# Altium schematic symbol library SCH - DRIVER - LED - TI TPS92638-Q1PWP.SchLib: 1 symbol
Pins are listed as number, name and electrical type; pins without a type are passive.

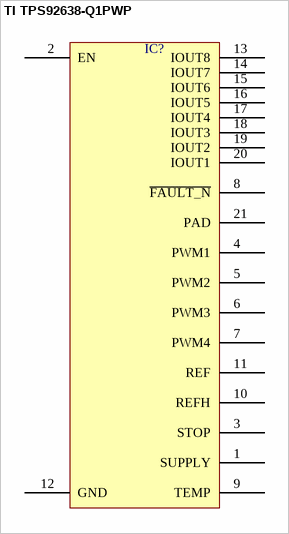
[diagram p0: symbol TI TPS92638-Q1PWP]

## TI TPS92638-Q1PWP
designator IC?  (value not drawn)
pins: 1 SUPPLY, 2 EN, 3 STOP, 4 PWM1, 5 PWM2, 6 PWM3, 7 PWM4, 8 ~{FAULT_N}, 9 TEMP, 10 REFH, 11 REF, 12 GND, 13 IOUT8, 14 IOUT7, 15 IOUT6, 16 IOUT5, 17 IOUT4, 18 IOUT3, 19 IOUT2, 20 IOUT1, 21 PAD